# EAGLE library part PIN-CONNECTOR (library PIN-CONNECTOR)
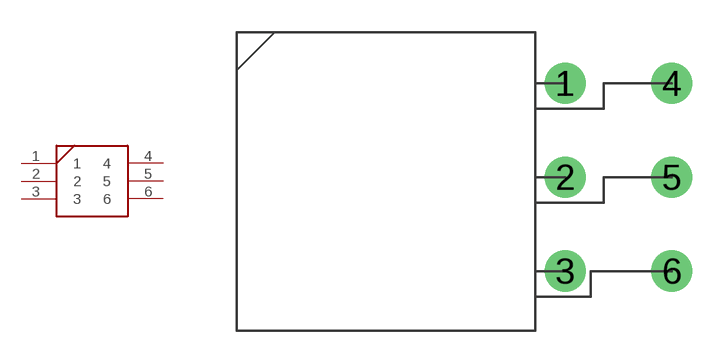
[diagram p0: symbol with the pads of PIN-CONNECTOR; footprint PIN-CONNECTOR]

Designator prefix -

## PIN-CONNECTOR  [PIN-CONNECTOR]
1  1
2  2
3  3
4  4
5  5
6  6

## Footprint PIN-CONNECTOR (pad centres in mm)
drill 0.8 pad 1.93: 1 7.95,5.68; 2 7.95,1.28; 3 7.95,-3.12; 4 12.95,5.68; 5 12.95,1.28; 6 12.95,-3.12